# EAGLE library part TLC0832CPE4 (library senior-design)
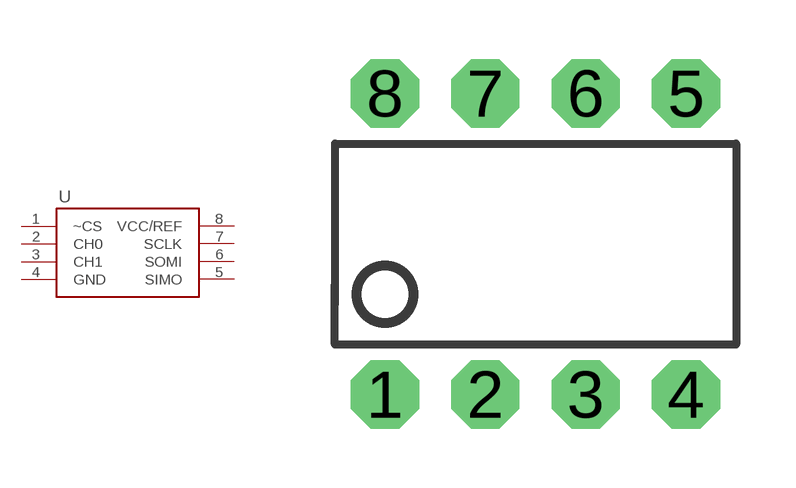
[diagram p2: symbol with the pads of DIP08; footprint DIP08]

Designator prefix -

## TLC0832CPE4  [DIP08]
1  ~CS
2  CH0
3  CH1
4  GND
5  SIMO
6  SOMI
7  SCLK
8  VCC/REF

## Footprint DIP08 (pad centres in mm)
Dual In Line
drill 0.813 pad 1.727 octagon: 1 -3.81,-3.81; 2 -1.27,-3.81; 3 1.27,-3.81; 4 3.81,-3.81; 5 3.81,3.81; 6 1.27,3.81; 7 -1.27,3.81; 8 -3.81,3.81